# Altium schematic symbol library PIC18C801_18F8680.Schlib: 1 symbol
Pins are listed as number, name and electrical type; pins without a type are passive.

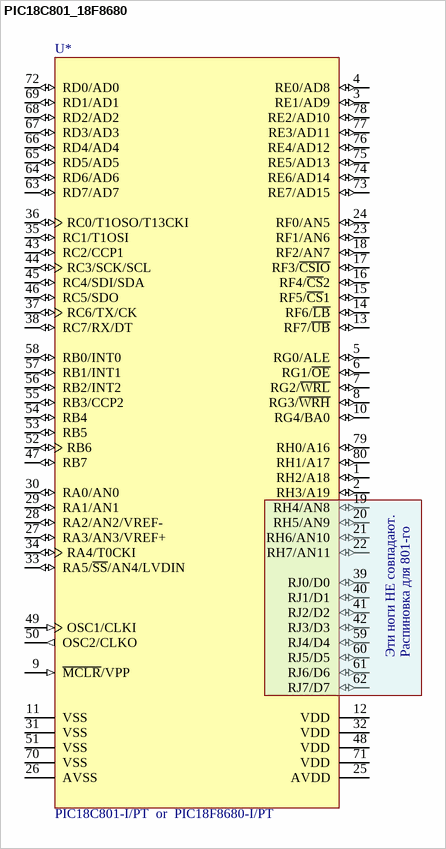
[diagram p0: symbol PIC18C801_18F8680]

## PIC18C801_18F8680
designator U*, comment PIC18C801-I/PT  or  PIC18F8680-I/PT
footprint TQFP_80_PIC (Thin QFP, 80-Leads, Body 12x12mm, Pitch 0.5mm, IPC Medium Density)
pins: 1 RH2/A18 (io), 2 RH3/A19 (io), 3 RE1/AD9 (io), 4 RE0/AD8 (io), 5 RG0/ALE (io), 6 RG1/~{OE} (io), 7 RG2/~{WRL} (io), 8 RG3/~{WRH} (io), 9 ~{MCLR}/VPP (in), 10 RG4/BA0 (io), 11 VSS (power), 12 VDD (power), 13 RF7/~{UB} (io), 14 RF6/~{LB} (io), 15 RF5/~{CS}1 (io), 16 RF4/~{CS}2 (io), 17 RF3/~{CSIO} (io), 18 RF2/AN7 (io), 19 RH4/AN8 (io), 20 RH5/AN9 (io), 21 RH6/AN10 (io), 22 RH7/AN11 (io), 23 RF1/AN6 (io), 24 RF0/AN5 (io), 25 AVDD (power), 26 AVSS (power), 27 RA3/AN3/VREF+ (io), 28 RA2/AN2/VREF- (io), 29 RA1/AN1 (io), 30 RA0/AN0 (io), 31 VSS (power), 32 VDD (power), 33 RA5/~{SS}/AN4/LVDIN (io), 34 RA4/T0CKI (io), 35 RC1/T1OSI (io), 36 RC0/T1OSO/T13CKI (io), 37 RC6/TX/CK (io), 38 RC7/RX/DT (io), 39 RJ0/D0 (io), 40 RJ1/D1 (io), 41 RJ2/D2 (io), 42 RJ3/D3 (io), 43 RC2/CCP1 (io), 44 RC3/SCK/SCL (io), 45 RC4/SDI/SDA (io), 46 RC5/SDO (io), 47 RB7 (io), 48 VDD (power), 49 OSC1/CLKI (in), 50 OSC2/CLKO (out), 51 VSS (power), 52 RB6 (io), 53 RB5 (io), 54 RB4 (io), 55 RB3/CCP2 (io), 56 RB2/INT2 (io), 57 RB1/INT1 (io), 58 RB0/INT0 (io), 59 RJ4/D4 (io), 60 RJ5/D5 (io), 61 RJ6/D6 (io), 62 RJ7/D7 (io), 63 RD7/AD7 (io), 64 RD6/AD6 (io), 65 RD5/AD5 (io), 66 RD4/AD4 (io), 67 RD3/AD3 (io), 68 RD2/AD2 (io), 69 RD1/AD1 (io), 70 VSS (power), 71 VDD (power), 72 RD0/AD0 (io), 73 RE7/AD15 (io), 74 RE6/AD14 (io), 75 RE5/AD13 (io), 76 RE4/AD12 (io), 77 RE3/AD11 (io), 78 RE2/AD10 (io), 79 RH0/A16 (io), 80 RH1/A17 (io)
text: Эти ноги НЕ совпадают.; Распиновка для 801-го